# Altium footprint library Passive_Devices.PcbLib: 31 footprints (part 1 of 2)
Each footprint in its own frame and in the unit in brackets; x right, y up, seen from the top. Pads: shape width x height; smd on the part's side, far side on the other; paste and mask are expansions set on the pad; w line width, h text height; cw(c..) or ccw(c..) is an arc to the next point about the centre after c.
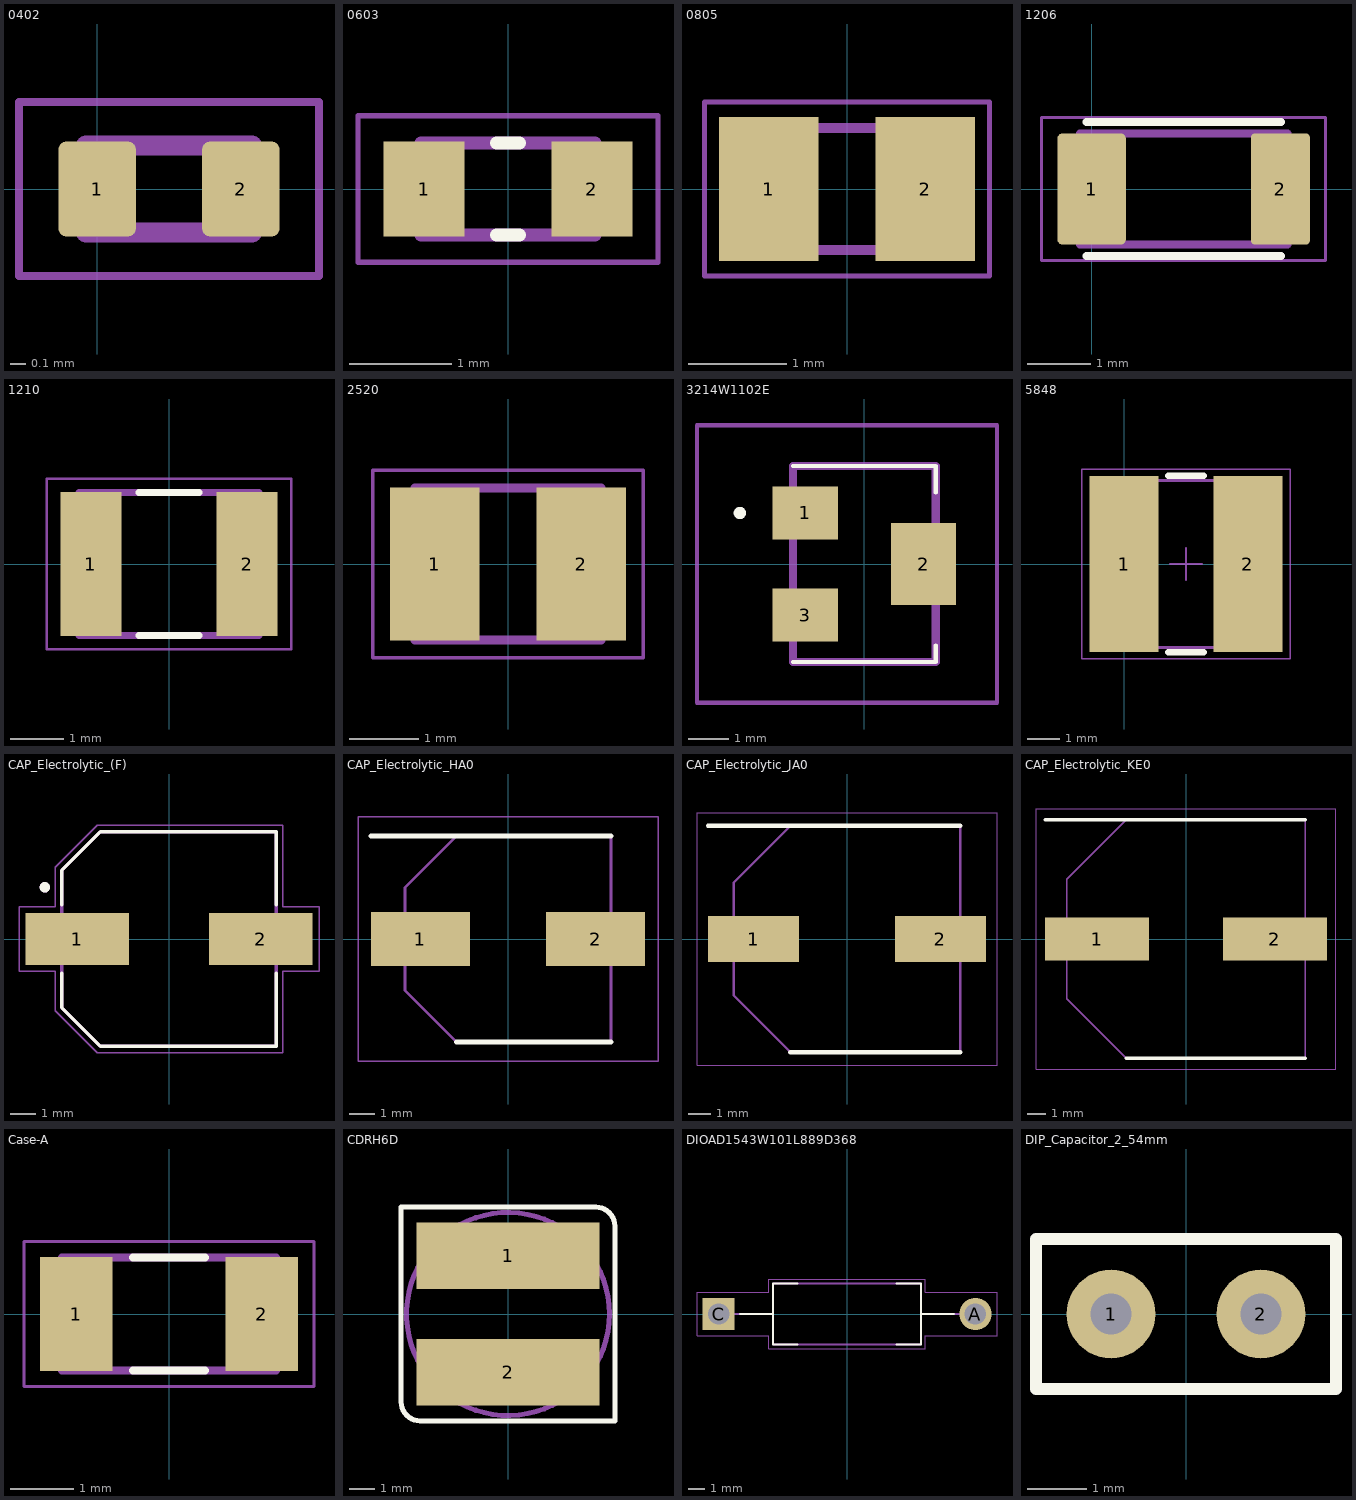
[diagram p0: the footprints below, top view; thin cyan lines are the x and y axes]

## 0402 [mm]
pads (2):
  rrect20% 0.49x0.6 smd: 1(0,0) 2(0.91,0)
Mechanical 13:
  lines w0.127: -0.07,-0.275 0.98,-0.275 0.98,0.275 -0.07,0.275 -0.07,-0.275
Mechanical 15:
  lines w0.05: -0.495,-0.55 1.405,-0.55 1.405,0.55 -0.495,0.55 -0.495,-0.55
3D body "HMC0402JT33M0.STEP": height 0.42, standoff 0.02, extent -0.02,-0.25 0.98,0.25

## 0603 [mm] "0603 case (inch)"
pads (2):
  rect 0.79x0.93 smd: 1(-0.82,0) 2(0.82,0)
Top Overlay:
  lines w0.127: -0.11,-0.45 0.11,-0.45 ; -0.11,0.45 0.11,0.45
Mechanical 13:
  lines w0.127: -0.85,-0.45 0.85,-0.45 0.85,0.45 -0.85,0.45 -0.85,-0.45
Mechanical 15:
  lines w0.05: -1.465,-0.715 1.465,-0.715 1.465,0.715 -1.465,0.715 -1.465,-0.715
3D body "step_temp.STEP": height 0.55, standoff 0, extent -0.8,-0.4 0.8,0.4

## 0805 [mm] "0805 case (inch)"
pads (2):
  rect 1.02x1.47 smd: 1(-0.8,0) 2(0.8,0)
Mechanical 13:
  lines w0.1: -1,-0.625 1,-0.625 1,0.625 -1,0.625 -1,-0.625
Mechanical 15:
  lines w0.05: -1.46,-0.89 1.46,-0.89 1.46,0.89 -1.46,0.89 -1.46,-0.89
3D body "C0805C104K5RAC-TU.stp": height 0.88, standoff 0, extent -1.1,-0.73 1.1,0.72

## 1206 [mm]
pads (2):
  rrect14% 1.09x1.77 smd: 1(0,0)
  rrect14% 0.94x1.77 smd: 2(3.005,0)
Top Overlay:
  lines w0.127: -0.085,-1.065 3.015,-1.065 ; -0.085,1.065 3.015,1.065
Mechanical 13:
  lines w0.127: -0.185,-0.88 3.115,-0.88 3.115,0.88 -0.185,0.88 -0.185,-0.88
Mechanical 15:
  lines w0.05: -0.795,-1.14 3.725,-1.14 3.725,1.14 -0.795,1.14 -0.795,-1.14
3D body "3-1879497-9.STEP": height 1, standoff 0, extent -0.1,-0.793 3.1,0.793

## 1210 [mm]
pads (2):
  rect 1.16x2.72 smd: 1(-1.475,0) 2(1.475,0)
Top Overlay:
  lines w0.127: -0.57,-1.35 0.57,-1.35 ; -0.57,1.35 0.57,1.35
Mechanical 13:
  lines w0.127: -1.7,-1.35 1.7,-1.35 1.7,1.35 -1.7,1.35 -1.7,-1.35
Mechanical 15:
  lines w0.05: -2.308,-1.608 2.308,-1.608 2.308,1.608 -2.308,1.608 -2.308,-1.608
3D body "C1210C107M9PACTU.STEP": height 1.9, standoff 0, extent -1.6,-1.25 1.6,1.25

## 2520 [mm]
pads (2):
  rect 1.3x2.22 smd: 1(-1.06,0) 2(1.06,0)
Mechanical 13:
  lines w0.127: -1.35,-1.1 -1.35,1.1 1.35,1.1 1.35,-1.1 -1.35,-1.1
Mechanical 15:
  lines w0.05: -1.958,-1.358 -1.958,1.358 1.958,1.358 1.958,-1.358 -1.958,-1.358

## 3214W1102E [mm] "4mm sq - SMD potentiometer"
pads (3):
  rect 1.6x1.3 smd: 1(-1.45,1.25) 3(-1.45,-1.25)
  rect 1.6x2 smd: 2(1.45,0)
Top Overlay:
  lines w0.1: 1.75,-2.4 -1.75,-2.4 1.75,-2.4 ; 1.75,-2.4 1.75,-2 1.75,-2.4 ; 1.75,2.4 -1.75,2.4 1.75,2.4 ; 1.75,2.4 1.75,1.75 1.75,2.4
  lines w0.2: -3.1,1.25 ccw(c-3.05,1.25) -3,1.25 ; -3.1,1.25 cw(c-3.05,1.25) -3,1.25 ; -3.1,1.25 ccw(c-3.05,1.25) -3,1.25
Mechanical 13:
  lines w0.2: -1.75,-2.4 1.75,-2.4 1.75,2.4 -1.75,2.4 -1.75,-2.4
Mechanical 15:
  lines w0.1: -4.1,-3.4 3.25,-3.4 3.25,3.4 -4.1,3.4 -4.1,-3.4
3D body "3214W-1-102E.stp": height 5.29, standoff 0, extent -2.838,-1.975 1.988,1.98

## 5848 [mm]
pads (2):
  rect 2.15x5.5 smd: 1(0,0) 2(3.85,0)
Top Overlay:
  lines w0.2: 1.375,-2.75 2.475,-2.75 ; 1.375,2.75 2.475,2.75
Mechanical 13:
  lines w0.1: -0.975,-2.6 -0.975,2.6 4.825,2.6 4.825,-2.6 -0.975,-2.6
Mechanical 15:
  lines w0.05: 1.425,0 2.425,0 ; 1.925,-0.5 1.925,0.5 ; -1.325,-2.95 -1.325,2.95 5.175,2.95 5.175,-2.95 -1.325,-2.95
3D body "744774xx.stp": height 4.48, standoff -0.02, extent -0.675,-2.898 4.525,2.889

## CAP_Electrolytic_(F) [mm] "Aluminium Electrolytic Capacitors - SMD - (F)"
pads (2):
  rect 4x2 smd: 1(-3.55,0) 2(3.55,0)
Top Overlay:
  circle w0.2: c-4.8,2 r0.1
  lines w0.127: -4.15,-1.32 -4.15,-2.65 -2.65,-4.15 4.15,-4.15 4.15,-1.32 ; -4.15,1.32 -4.15,2.65 -2.65,4.15 4.15,4.15 4.15,1.32
Mechanical 13:
  circle w0.2: c-4.8,2 r0.1
  lines w0.127: -4.15,-2.65 -2.65,-4.15 4.15,-4.15 4.15,4.15 -2.65,4.15 -4.15,2.65 -4.15,-2.65
Mechanical 15:
  lines w0.05: -5.8,-1.25 -5.8,1.25 -4.4,1.25 -4.4,2.775 -2.775,4.4 4.4,4.4 4.4,1.25 5.8,1.25 5.8,-1.25 4.4,-1.25 4.4,-4.4 -2.775,-4.4 -4.4,-2.775 -4.4,-1.25 -5.8,-1.25
3D body "step_temp.STEP": height 10.2, standoff 0, extent -4.85,-4.15 4.85,4.15

## CAP_Electrolytic_HA0 [mm] "Aluminium Electrolytic Capacitors - SMD - HA0"
pads (2):
  rect 3.85x2.1 smd: 1(-3.4,0) 2(3.4,0)
Top Overlay:
  lines w0.2: -5.325,4 4,4 ; -2,-4 4,-4
Mechanical 13:
  lines w0.1: -4,-2 -4,2 -2,4 4,4 4,-4 -2,-4 -4,-2
Mechanical 15:
  lines w0.05: -5.825,-4.75 5.825,-4.75 5.825,4.75 -5.825,4.75 -5.825,-4.75
3D body "HHXB800ARA220MHA0G.stp": height 10.5, standoff 0, extent -4.6,-4.25 4.6,4.25

## CAP_Electrolytic_JA0 [mm] "Aluminium Electrolytic Capacitors - SMD - JA0"
pads (2):
  rect 4.15x2.1 smd: 1(-4.25,0) 2(4.25,0)
Top Overlay:
  lines w0.2: -6.325,5.15 5.15,5.15 ; -2.575,-5.15 5.15,-5.15
Mechanical 13:
  lines w0.1: -5.15,-2.575 -2.575,-5.15 5.15,-5.15 5.15,5.15 -2.575,5.15 -5.15,2.575 -5.15,-2.575
Mechanical 15:
  lines w0.05: -6.825,-5.75 -6.825,5.75 6.825,5.75 6.825,-5.75 -6.825,-5.75
3D body "EMZR500ARA331MJA0G.stp": height 10.5, standoff 0, extent -5.6,-5.25 5.6,5.25

## CAP_Electrolytic_KE0 [mm] "Aluminium Electrolytic Capacitors - SMD - KE0"
pads (2):
  rect 5.65x2.35 smd: 1(-4.85,0) 2(4.85,0)
Top Overlay:
  lines w0.2: -7.675,6.5 6.5,6.5 ; -3.25,-6.5 6.5,-6.5
Mechanical 13:
  lines w0.1: -6.5,-3.25 -6.5,3.25 -3.25,6.5 6.5,6.5 6.5,-6.5 -3.25,-6.5 -6.5,-3.25
Mechanical 15:
  lines w0.05: -8.175,-7.1 8.175,-7.1 8.175,7.1 -8.175,7.1 -8.175,-7.1
3D body "EMVH500ARA221MKE0S.stp": height 14, standoff 0, extent -6.95,-6.6 6.95,6.6

## Case-A [mm]
pads (2):
  rect 1.16x1.82 smd: 1(-1.475,0) 2(1.475,0)
Top Overlay:
  lines w0.127: -0.57,-0.9 0.57,-0.9 ; -0.57,0.9 0.57,0.9
Mechanical 13:
  lines w0.127: -1.7,-0.9 1.7,-0.9 1.7,0.9 -1.7,0.9 -1.7,-0.9
Mechanical 15:
  lines w0.05: -2.308,-1.15 2.308,-1.15 2.308,1.15 -2.308,1.15 -2.308,-1.15

## CDRH6D [mm] "SMD Inductor"
height 4
pads (2):
  rect 7.3x2.65 smd: 1(0,2.317) 2(0,-2.317)
Top Overlay:
  lines w0.203: -4.25,-3.496 ccw(c-3.496,-3.496) -3.496,-4.25 4.25,-4.25 4.25,3.496 ccw(c3.496,3.496) 3.496,4.25 -4.25,4.25 -4.25,-3.496
Mechanical 13:
  circle w0.203: c0,0 r4.039
3D body "CDRH6D38NP-100NC--3DModel-STEP-56544.STEP": height 4, standoff 0, extent -3.35,-3.35 3.35,3.35

## DIOAD1543W101L889D368 [mm]
pads (2):
  round 1.94 hole 1.29: A(7.715,0)
  rect 1.94x1.94 hole 1.29: C(-7.715,0)
Top Overlay:
  lines w0.127: -6.425,0 -4.45,0 ; -2.97,-1.84 -4.45,-1.84 -4.45,0 ; -2.97,1.84 -4.45,1.84 -4.45,0 ; 2.97,-1.84 4.45,-1.84 4.45,0 ; 2.97,1.84 4.45,1.84 4.45,0 ; 6.425,0 4.45,0
Mechanical 13:
  lines w0.127: -6.745,0 -4.45,0 ; 6.745,0 4.45,0 ; -4.45,0 -4.45,-1.84 4.45,-1.84 4.45,0 ; -4.45,0 -4.45,1.84 4.45,1.84 4.45,0
Mechanical 15:
  lines w0.05: -9.01,-1.295 -9.01,1.295 -4.7,1.295 -4.7,2.09 4.7,2.09 4.7,1.295 9.01,1.295 9.01,-1.295 4.7,-1.295 4.7,-2.09 -4.7,-2.09 -4.7,-1.295 -9.01,-1.295
3D body "step_temp.STEP": height 3.68, standoff -27.94, extent -8.23,-1.841 8.23,1.842

## DIP_Capacitor_2_54mm [mm] "Radial Capacitor, Thru-Hole; 2 Leads; 2.54mm Pin Spacing"
pads (2):
  round 1.5 hole 0.7: 1(-1.27,0) 2(1.27,0)
Top Overlay:
  lines w0.2: -2.54,-1.27 2.54,-1.27 2.54,1.27 -2.54,1.27 -2.54,-1.27